# Altium schematic symbol library BLDC_Controller.SchLib: 13 symbols
Pins are listed as number, name and electrical type; pins without a type are passive.

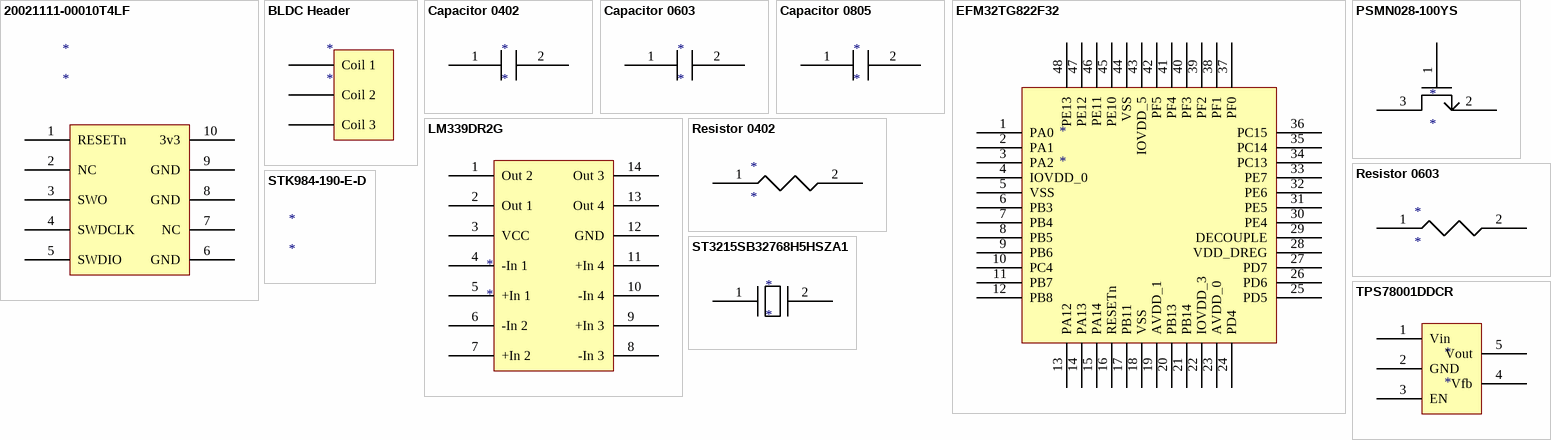
[diagram p0: symbols 20021111-00010T4LF to TPS78001DDCR]

## 20021111-00010T4LF
designator *
footprint 20021111-00010T4LF
pins: 1 RESETn, 2 NC, 3 SWO, 4 SWDCLK, 5 SWDIO, 6 GND, 7 NC, 8 GND, 9 GND, 10 3v3

## BLDC Header
designator *
footprint BLDC Header
pins: 1 Coil 1, 2 Coil 2, 3 Coil 3

## Capacitor 0402
designator *
footprint Capacitor 0402
pins: 1, 2

## Capacitor 0603
designator *
footprint Capacitor 0603
pins: 1, 2

## Capacitor 0805
designator *
footprint Capacitor 0805
pins: 1, 2

## EFM32TG822F32
designator *
footprint EFM32TG822F32
pins: 1 PA0, 2 PA1, 3 PA2, 4 IOVDD_0, 5 VSS, 6 PB3, 7 PB4, 8 PB5, 9 PB6, 10 PC4, 11 PB7, 12 PB8, 13 PA12, 14 PA13, 15 PA14, 16 RESETn, 17 PB11, 18 VSS, 19 AVDD_1, 20 PB13, 21 PB14, 22 IOVDD_3, 23 AVDD_0, 24 PD4, 25 PD5, 26 PD6, 27 PD7, 28 VDD_DREG, 29 DECOUPLE, 30 PE4, 31 PE5, 32 PE6, 33 PE7, 34 PC13, 35 PC14, 36 PC15, 37 PF0, 38 PF1, 39 PF2, 40 PF3, 41 PF4, 42 PF5, 43 IOVDD_5, 44 VSS, 45 PE10, 46 PE11, 47 PE12, 48 PE13

## LM339DR2G
designator *
footprint LM339DR2G
pins: 1 Out 2, 2 Out 1, 3 VCC, 4 -In 1, 5 +In 1, 6 -In 2, 7 +In 2, 8 -In 3, 9 +In 3, 10 -In 4, 11 +In 4, 12 GND, 13 Out 4, 14 Out 3

## PSMN028-100YS
designator *
footprint PSMN028-100YS
pins: 1, 2, 3

## Resistor 0402
designator *
footprint Resistor 0402
pins: 1, 2

## Resistor 0603
designator *
footprint Resistor 0603
pins: 1, 2

## ST3215SB32768H5HSZA1
designator *
footprint ST3215SB32768H5HSZA1
pins: 1, 2

## STK984-190-E-D
designator *

## TPS78001DDCR
designator *
footprint TPS78001DDCR
pins: 1 Vin, 2 GND, 3 EN, 4 Vfb, 5 Vout